# Altium footprint library PPAK.PcbLib: 2 footprints
Each footprint in its own frame and in the unit in brackets; x right, y up, seen from the top. Pads: shape width x height; smd on the part's side, far side on the other; paste and mask are expansions set on the pad; w line width, h text height; cw(c..) or ccw(c..) is an arc to the next point about the centre after c.
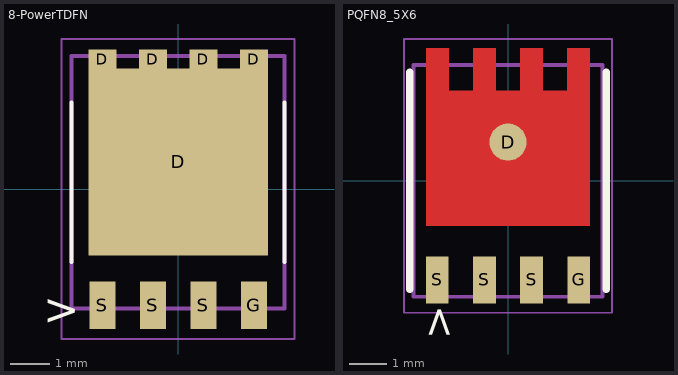
[diagram p0: the footprints below, top view; thin cyan lines are the x and y axes]

## 8-PowerTDFN [mm]
height 4.83
pads (9):
  rect 0.7x0.5 smd: D(-1.905,3.256) D(-0.635,3.256) D(0.635,3.256) D(1.905,3.256)
  rect 4.51x4.7 smd: D(0,0.681)
  rect 0.65x1.2 smd: G(1.905,-2.919) S(-1.905,-2.919) S(-0.635,-2.919) S(0.635,-2.919)
Top Overlay:
  lines w0.1: -2.675,-1.831 -2.675,2.169 ; 2.675,-1.831 2.675,2.169
  text ">" at -3.385,-3.411 h0.8
Mechanical 13:
  lines w0.1: -2.675,-3.006 2.675,-3.006 2.675,3.344 -2.675,3.344 -2.675,-3.006
Mechanical 15:
  lines w0.05: -0.5,0 0.5,0 ; 0,-0.5 0,0.5 ; -2.925,-3.769 2.925,-3.769 2.925,-3.006 2.925,3.344 2.925,3.769 -2.925,3.769 -2.925,-3.769
3D body "BSC110N06NS3GATMA1.step": height 1.2, standoff 0, extent -2.668,-2.911 2.668,3.249

## PQFN8_5X6 [mm] "G S D (123S 4G 5678D)"
height 1.1
pads (5):
  round 1 smd paste-2539.97: D(0,1.045)
  rect 0.61x1.27 smd: G(1.905,-2.67) S(-1.905,-2.67) S(-0.635,-2.67) S(0.635,-2.67)
Top Layer:
  region: 1.6,2.435 1.6,3.575 2.21,3.575 2.21,-1.215 -2.21,-1.215 -2.21,3.575 -1.6,3.575 -1.6,2.435 -0.94,2.435 -0.94,3.575 -0.33,3.575 -0.33,2.435 0.33,2.435 0.33,3.575 0.94,3.575 0.94,2.435
Top Overlay:
  lines w0.2: -2.65,-2.925 -2.65,2.925 ; 2.65,-2.925 2.65,2.925
  text ">" at -1.505,-4.264 h0.8
Top Paste:
  rectangle: 0.125,-1.015 2.01,0.485
  rectangle: 0.125,0.735 2.01,2.235
  rectangle: -2.01,0.735 -0.125,2.235
  rectangle: -2.01,-1.015 -0.125,0.485
  region: 2.21,3.575 2.21,2.435 1.6,2.435 1.6,3.575
  region: 0.94,3.575 0.94,2.435 0.33,2.435 0.33,3.575
  region: -0.33,3.575 -0.33,2.435 -0.94,2.435 -0.94,3.575
  region: -1.6,3.575 -1.6,2.435 -2.21,2.435 -2.21,3.575
Mechanical 13:
  lines w0.1: -2.55,-3.125 -2.55,3.125 2.55,3.125 2.55,-3.125 -2.55,-3.125
Mechanical 15:
  lines w0.05: -2.8,-3.555 -2.8,3.825 2.8,3.825 2.8,-3.555 -2.8,-3.555
  lines w0.1: -0.5,0 0.5,0 ; 0,-0.5 0,0.5
3D body "Trans_ON_Semiconductor_FDMS86500L_eec.STEP": height 1.1, standoff 0, extent -2.575,-3.075 2.575,3.075